# EAGLE library part 1827949 (library con-phoenix-3.81)
Base strip - MC 1,5/10-GF-3,81 - 1827949 Base for plugable connector.
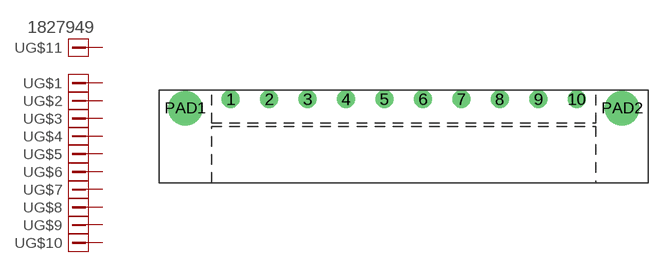
[diagram p5: symbol with the pads of 1827949; footprint 1827949]

Designator prefix -; gates G$1=PIN G$2=PIN G$3=PIN G$4=PIN G$5=PIN G$6=PIN G$7=PIN G$8=PIN G$9=PIN G$10=PIN G$11=PINV

## 1827949  [1827949]
1  G$1:1  pas
2  G$2:1  pas
3  G$3:1  pas
4  G$4:1  pas
5  G$5:1  pas
6  G$6:1  pas
7  G$7:1  pas
8  G$8:1  pas
9  G$9:1  pas
10  G$10:1  pas
PAD1  G$11:1  pas
PAD2  G$11:1  pas

## Footprint 1827949 (pad centres in mm)
drill 1.2: 1 -17.145,3.7; 2 -13.335,3.7; 3 -9.525,3.7; 4 -5.715,3.7; 5 -1.905,3.7; 6 1.905,3.7; 7 5.715,3.7; 8 9.525,3.7; 9 13.335,3.7; 10 17.145,3.7
drill 2.4: PAD1 -21.645,2.8; PAD2 21.645,2.8